# EAGLE library part LCD_16X4 (library SparkFun-Displays)
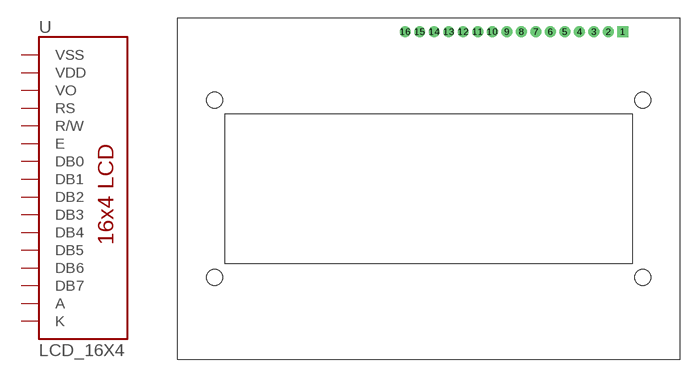
[diagram p14: symbol with the pads of LCD-16X2; footprint LCD-16X2]

Designator prefix -

## LCD_16X4  [LCD-16X2]
1  A  pwr
2  DB0
3  DB1
4  DB2
5  DB3
6  DB4
7  DB5
8  DB6
9  DB7
10  E  in
11  K  pwr
12  R/W  in
13  RS  in
14  VDD  pwr
15  VO
16  VSS  pwr

## Footprint LCD-16X2 (pad centres in mm)
LCD-16x2 For Standard hitatchi type LCDs with backlight. Has 16 pin connection, silk outiline, and mounting holes. Specifications: Pin count: 16 Pin pitch: 0.1" Area: Datasheet referenced for footprint: Example device(s): Basic 16x2 LCD <https://www.sparkfun.com/products/255>
drill 1.016 pad 1.88 square: 1 34,27.5
drill 1.016 pad 1.88: 2 31.46,27.5; 3 28.92,27.5; 4 26.38,27.5; 5 23.84,27.5; 6 21.3,27.5; 7 18.76,27.5; 8 16.22,27.5; 9 13.68,27.5; 10 11.14,27.5; 11 8.6,27.5; 12 6.06,27.5; 13 3.52,27.5; 14 0.98,27.5; 15 -1.56,27.5; 16 -4.1,27.5
hole 2.8 at -37.5,15.5
hole 2.8 at -37.5,-15.5
hole 2.8 at 37.5,15.5
hole 2.8 at 37.5,-15.5